# EAGLE library part H11L1 (library FCC_parts)
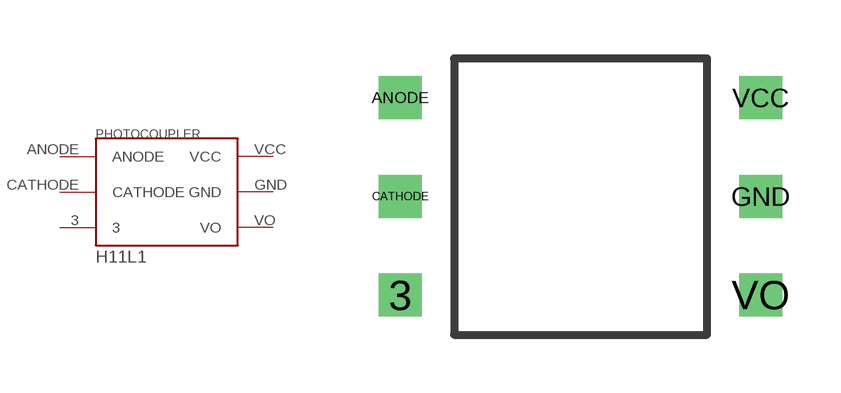
[diagram p2: symbol with the pads of H11L1; footprint H11L1]

Designator prefix -

## H11L1H11L1  [H11L1]
3  3
ANODE  ANODE
CATHODE  CATHODE
GND  GND
VCC  VCC
VO  VO

## Footprint H11L1 (pad centres in mm)
drill 0.6 square: 3 -4.635,-2.54; ANODE -4.635,2.54; CATHODE -4.635,0; GND 4.635,0; VCC 4.635,2.54; VO 4.635,-2.54